# Altium footprint library PcbLib1.PcbLib: 1 footprints
Each footprint in its own frame and in the unit in brackets; x right, y up, seen from the top. Pads: shape width x height; smd on the part's side, far side on the other; paste and mask are expansions set on the pad; w line width, h text height; cw(c..) or ccw(c..) is an arc to the next point about the centre after c.
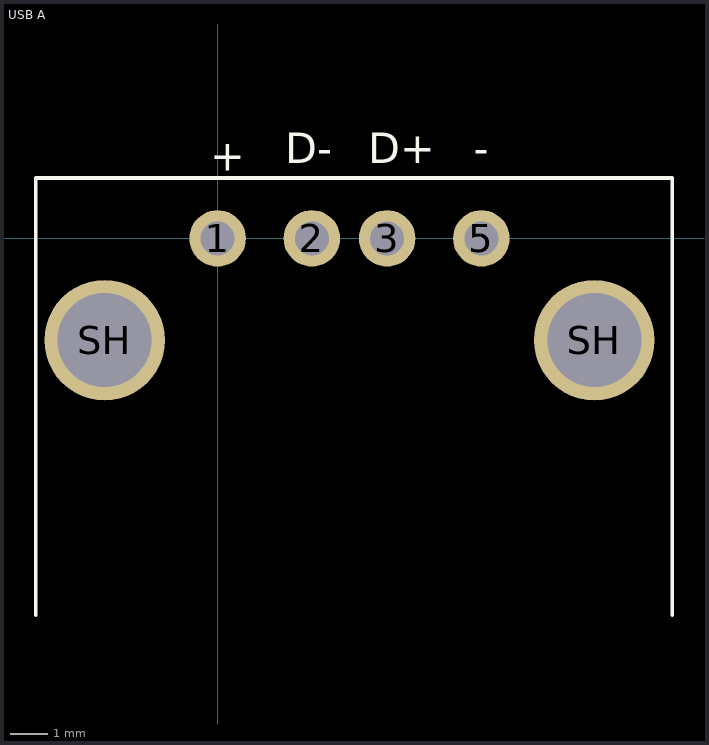
[diagram p0: the footprint, top view; thin cyan lines are the x and y axes]

## USB A [mm]
pads (6):
  round 1.5 hole 0.9: 1(0,0) 2(2.5,0) 3(4.5,0) 5(7,0)
  round 3.2 hole 2.5: SH(-3,-2.7) SH(10,-2.7)
Top Overlay:
  lines w0.1: -4.826,-10 -4.826,1.6 12.065,1.6 12.065,-10
  text "+" at -0.2,1.8 h0.8
  text "D-" at 1.8,2 h0.8
  text "D+" at 4,2 h0.8
  text "-" at 6.8,2 h0.8
3D body "745521121blf.stp": height 8.14, standoff -2.35, extent -3.85,-13 10.65,1.3